# Altium integrated library Analog Devices Switches and Multiplexers Analog Switches.IntLib: 575 symbols (part 21 of 23)
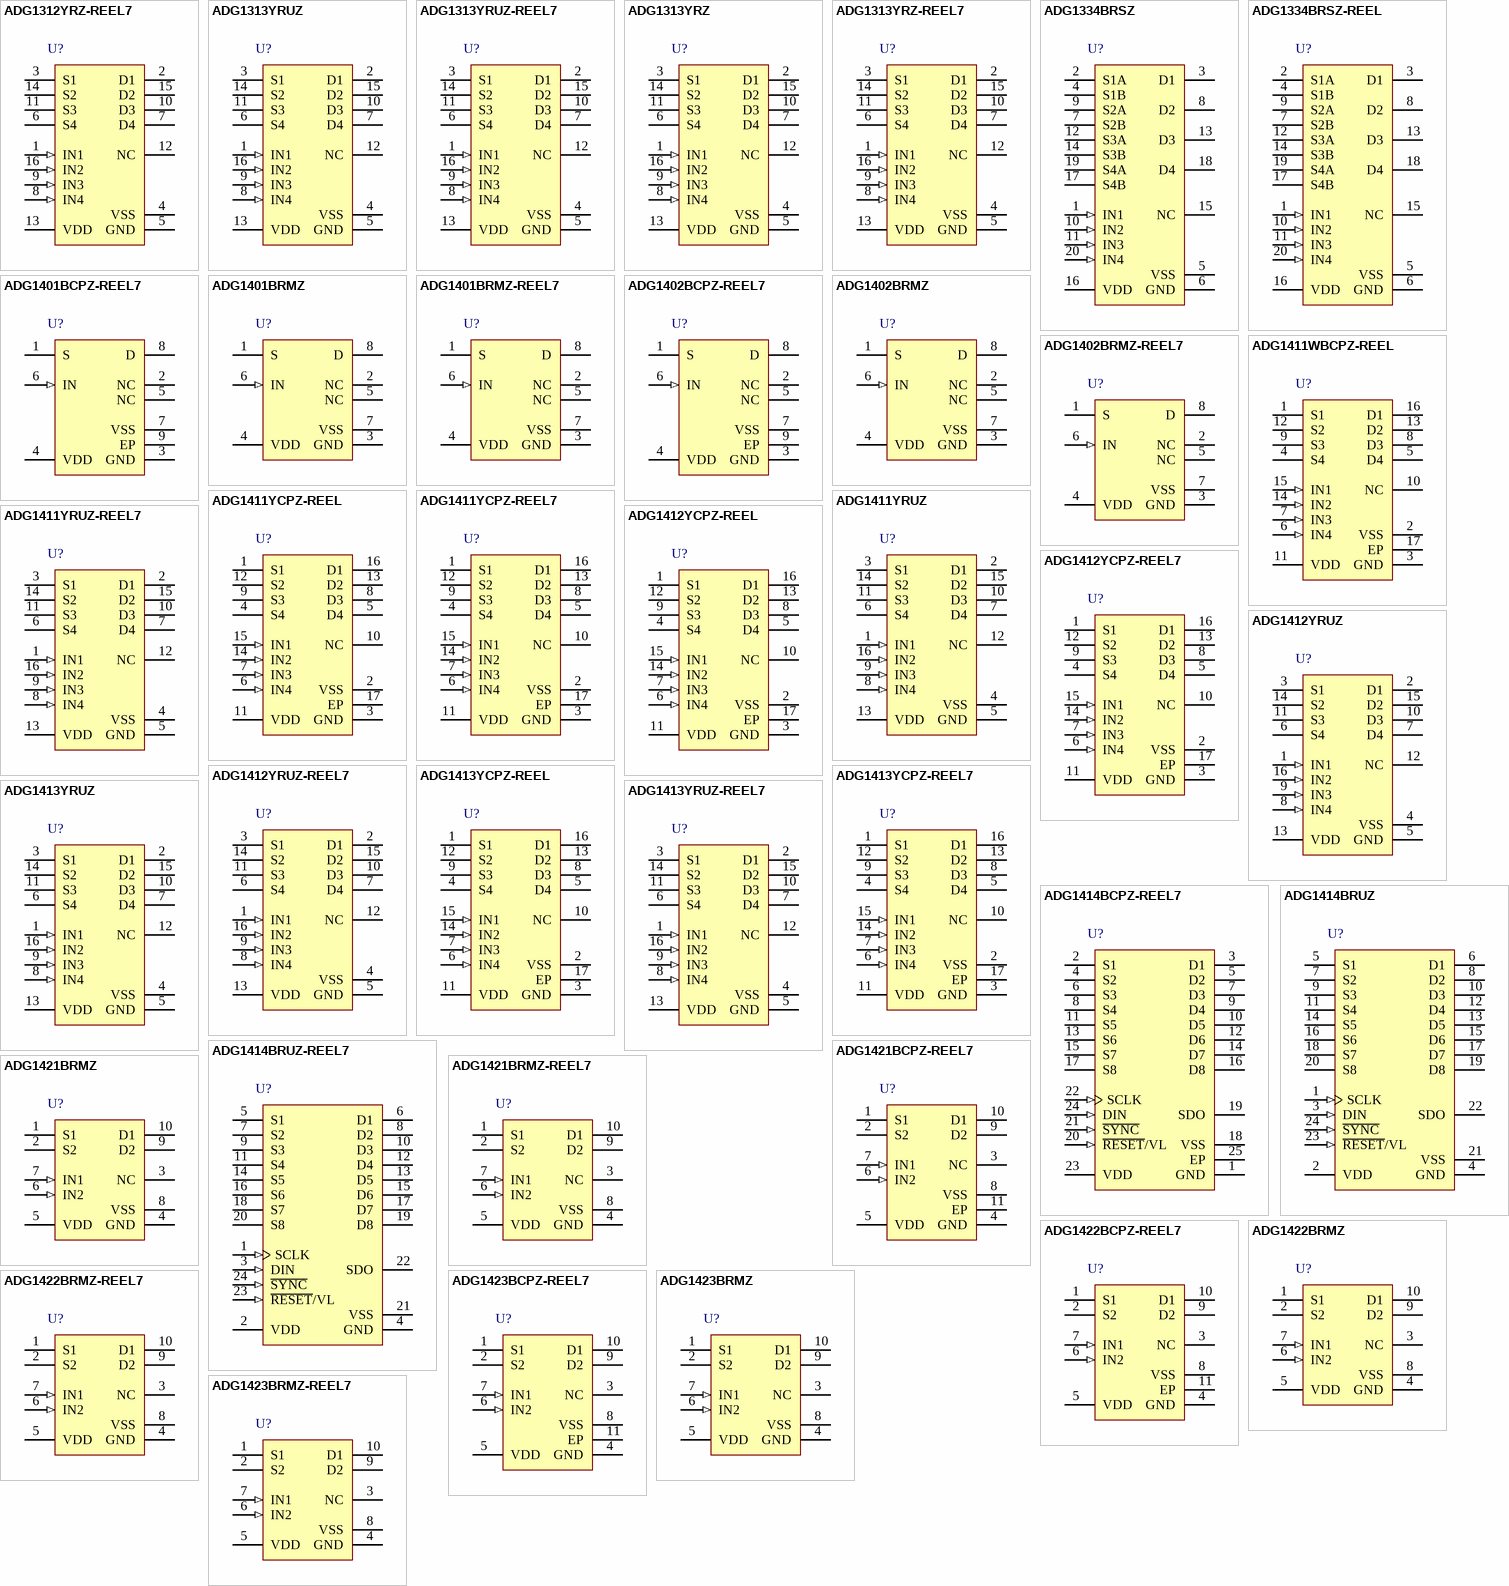
[diagram p35: symbols ADG1312YRZ-REEL7 to ADG1423BRMZ-REEL7]

## ADG1413YRUZ
designator U?
1.5 Ohm on Resistance, +/-15 V / +12 V / +/-5 V, iCMOS, Quad SPST Switch, -40 to 125 degC, 16-pin SOP (RU-16), Tube; Manufacturer: Analog Devices; PartNumber: ADG1413YRUZ; Id, Is (ON): 150pA, 150pA, 50pA; Is OFF: 30pA, 20pA, 30pA; Power Dissipation: 4.97mW; Ron (ohms): 1.5; DatasheetVersion: Rev. B; PackageVersion: Nov-02; PackageReference: RU-16; PackageDescription: 16-Pin Thin Shrink Small Outline Package, Body 5 x 4.4 mm, Pitch 0.65 mm; Supplier 1: Digi-Key; Supplier Part Number 1: ADG1413YRUZ-ND; Supplier 2: Newark; Supplier Part Number 2: 11N8728; Supplier 3: Mouser; Supplier Part Number 3: 584-ADG1413YRUZ; Configuration: SPST; Packing: Tube; Mounting Technology: Surface Mount; Code_JEDEC: MO-153AB; ComponentLink1Description: Manufacturer URL; ComponentLink1URL: http://www.analog.com/en/index.html; ComponentLink2Description: Datasheet; ComponentLink2URL: http://www.analog.com/static/imported-files/data_sheets/ADG1411_1412_1413.pdf; ComponentLink3Description: Package Specification; ComponentLink3URL: http:/www.analog.com/static/imported-files/packages/36244347913743854010197452789RU16.pdf
footprint ADI-RU-16_N (SOP, 16-Leads, Body 5x4.4mm, Pitch 0.65mm, IPC Medium Density)
footprint ADI-RU-16_L (SOP, 16-Leads, Body 5x4.4mm, Pitch 0.65mm, IPC High Density)
footprint ADI-RU-16_M (SOP, 16-Leads, Body 5x4.4mm, Pitch 0.65mm, IPC Low Density)
pins: 1 IN1 (in) "Logic Control Input.", 2 D1 "Drain Terminal. This pin can be an input or output.", 3 S1 "Source Terminal. This pin can be an input or output.", 4 VSS (power) "Most Negative Power Supply Potential.", 5 GND (power) "Ground (0 V) Reference.", 6 S4 "Source Terminal. This pin can be an input or output.", 7 D4 "Drain Terminal. This pin can be an input or output.", 8 IN4 (in) "Logic Control Input.", 9 IN3 (in) "Logic Control Input.", 10 D3 "Drain Terminal. This pin can be an input or output.", 11 S3 "Source Terminal. This pin can be an input or output.", 12 NC "No Connection.", 13 VDD (power) "Most Positive Power Supply Potential.", 14 S2 "Source Terminal. This pin can be an input or output.", 15 D2 "Drain Terminal. This pin can be an input or output.", 16 IN2 (in) "Logic Control Input."

## ADG1413YRUZ-REEL7
designator U?
1.5 Ohm on Resistance, +/-15 V / +12 V / +/-5 V, iCMOS, Quad SPST Switch, 16-pin SOP (RU-16), Reel; Manufacturer: Analog Devices; PartNumber: ADG1413YRUZ-REEL7; Id, Is (ON): 150pA, 150pA, 50pA; Is OFF: 30pA, 20pA, 30pA; Power Dissipation: 4.97mW; Ron (ohms): 1.5; DatasheetVersion: Rev. B; PackageVersion: Nov-02; PackageReference: RU-16; PackageDescription: 16-Pin Thin Shrink Small Outline Package, Body 5 x 4.4 mm, Pitch 0.65 mm; Supplier 1: Digi-Key; Supplier Part Number 1: ADG1413YRUZ-REEL7-ND; Supplier 2: Mouser; Supplier Part Number 2: 584-ADG1413YRUZ-R7; Configuration: SPST; Packing: Reel; Mounting Technology: Surface Mount; Code_JEDEC: MO-153AB; ComponentLink1Description: Manufacturer URL; ComponentLink1URL: http://www.analog.com/en/index.html; ComponentLink2Description: Datasheet; ComponentLink2URL: http://www.analog.com/static/imported-files/data_sheets/ADG1411_1412_1413.pdf; ComponentLink3Description: Package Specification; ComponentLink3URL: http:/www.analog.com/static/imported-files/packages/36244347913743854010197452789RU16.pdf
footprint ADI-RU-16_N (SOP, 16-Leads, Body 5x4.4mm, Pitch 0.65mm, IPC Medium Density)
footprint ADI-RU-16_L (SOP, 16-Leads, Body 5x4.4mm, Pitch 0.65mm, IPC High Density)
footprint ADI-RU-16_M (SOP, 16-Leads, Body 5x4.4mm, Pitch 0.65mm, IPC Low Density)
pins: 1 IN1 (in) "Logic Control Input.", 2 D1 "Drain Terminal. This pin can be an input or output.", 3 S1 "Source Terminal. This pin can be an input or output.", 4 VSS (power) "Most Negative Power Supply Potential.", 5 GND (power) "Ground (0 V) Reference.", 6 S4 "Source Terminal. This pin can be an input or output.", 7 D4 "Drain Terminal. This pin can be an input or output.", 8 IN4 (in) "Logic Control Input.", 9 IN3 (in) "Logic Control Input.", 10 D3 "Drain Terminal. This pin can be an input or output.", 11 S3 "Source Terminal. This pin can be an input or output.", 12 NC "No Connection.", 13 VDD (power) "Most Positive Power Supply Potential.", 14 S2 "Source Terminal. This pin can be an input or output.", 15 D2 "Drain Terminal. This pin can be an input or output.", 16 IN2 (in) "Logic Control Input."

## ADG1414BCPZ-REEL7
designator U?
9.5 Ohm RON +/-15 V / +12 V / +/-5 V iCMOS Serially-Controlled Octal SPST Switch, -40 to 125 degC, 24-pin QFN (CP-24-3), Reel; Manufacturer: Analog Devices; PartNumber: ADG1414BCPZ-REEL7; Id, Is (ON): 100pA, 50pA, 50pA; Is OFF: 50pA, 20pA, 20pA; Power Dissipation: 2.8mW; Ron (ohms): 9.5; DatasheetVersion: Rev. 0; PackageReference: CP-24-3; PackageDescription: 24-Pin Lead Frame Chip Scale Package, Body 4 x 4 mm, Pitch 0.5 mm; Supplier 1: Digi-Key; Supplier Part Number 1: ADG1414BCPZ-REEL7TR-ND; Supplier 2: Digi-Key; Supplier Part Number 2: ADG1414BCPZ-REEL7CT-ND; Supplier 3: Digi-Key; Supplier Part Number 3: ADG1414BCPZ-REEL7DKR-ND; Supplier 4: Newark; Supplier Part Number 4: 67R2179; Supplier 5: Mouser; Supplier Part Number 5: 584-ADG1414BCPZ-R7; Configuration: SPST; Packing: Reel; Mounting Technology: Surface Mount; Code_JEDEC: MO-220-VGGD-8; ComponentLink1Description: Manufacturer URL; ComponentLink1URL: http://www.analog.com/en/index.html; ComponentLink2Description: Datasheet; ComponentLink2URL: http://www.analog.com/static/imported-files/data_sheets/ADG1414.pdf; ComponentLink3Description: Package Specification; ComponentLink3URL: http://www.analog.com/static/imported-files/packages/56702234806764CP_24_3.pdf
footprint ADI-CP-24-3_N (QFN, 24-Leads, Body 4x4mm, Pitch 0.5mm,Thermal Pad 2.5x2.5mm, IPC Medium Density)
footprint ADI-CP-24-3_L (QFN, 24-Leads, Body 4x4mm, Pitch 0.5mm, Thermal Pad 2.5x2.5mm, IPC High Density)
footprint ADI-CP-24-3_M (QFN, 24-Leads, Body 4x4mm, Pitch 0.5mm, Thermal Pad 2.5x2.5mm, IPC Low Density)
pins: 1 GND (power) "Ground (0 V) Reference.", 2 S1 "Source Terminal 1. This pin can be an input or an output.", 3 D1 "Drain Terminal 1. This pin can be an input or an output.", 4 S2 "Source Terminal 1. This pin can be an input or an output.", 5 D2 "Drain Terminal 1. This pin can be an input or an output.", 6 S3 "Source Terminal 1. This pin can be an input or an output.", 7 D3 "Drain Terminal 1. This pin can be an input or an output.", 8 S4 "Source Terminal 1. This pin can be an input or an output.", 9 D4 "Drain Terminal 1. This pin can be an input or an output.", 10 D5 "Drain Terminal 1. This pin can be an input or an output.", 11 S5 "Source Terminal 1. This pin can be an input or an output.", 12 D6 "Drain Terminal 1. This pin can be an input or an output.", 13 S6 "Source Terminal 1. This pin can be an input or an output.", 14 D7 "Drain Terminal 1. This pin can be an input or an output.", 15 S7 "Source Terminal 1. This pin can be an input or an output.", 16 D8 "Drain Terminal 1. This pin can be an input or an output.", 17 S8 "Source Terminal 1. This pin can be an input or an output.", 18 VSS (power) "Most Negative Power Supply Potential. In single-supply applications, it can be connected to ground.", 19 SDO (oc) "Serial Data Output. This pin can be used for daisy-chaining a number of these devices together or for reading back the data in the shift register for diagnostic purposes. The serial data is transferred on the rising edge of (See Datasheet)", 20 ~{RESET}/VL (in) "RESET/Logic Power Supply Input (VL). When this pin is low (<0.8 V), this pin acts as RESET, all switches are open, and appropriate registers are cleared to 0. Otherwise, it is the logic power supply input that operates from (See Datasheet)", 21 ~{SYNC} (in) "Active Low Control Input. This is the frame synchronization signal for the input data. When SYNC goes low, it powers on the SCLK and DIN buffers and enables the input shift register. Data is transferred in on the falling (See Datasheet)", 22 SCLK (in) "Serial Clock Input. Data is clocked into the input shift register on the falling edge of the serial clock input. Data can be transferred at rates of up to 50 MHz.", 23 VDD (power) "Most Positive Power Supply Potential.", 24 DIN (in) "Serial Data Input. This device has an 8-bit shift register. Data is clocked into the register on the falling edge of the serial clock input.", 25 EP (power) "Exposed Pad. Exposed pad tied to the substrate, VSS."

## ADG1414BRUZ
designator U?
9.5 Ohm RON +/-15 V / +12 V / +/-5 V iCMOS Serially-Controlled Octal SPST Switch, -40 to 125 degC, 24-pin SOP (RU-24), Tube; Manufacturer: Analog Devices; PartNumber: ADG1414BRUZ; Id, Is (ON): 100pA, 50pA, 50pA; Is OFF: 50pA, 20pA, 20pA; Power Dissipation: 2.8mW; Ron (ohms): 9.5; DatasheetVersion: Rev. 0; PackageVersion: Nov-02; PackageReference: RU-24; PackageDescription: 24-Pin Thin Shrink Small Outline Package, Body 7.8 x 4.4 mm, Pitch 0.65 mm; Supplier 1: Digi-Key; Supplier Part Number 1: ADG1414BRUZ-ND; Supplier 2: Farnell; Supplier Part Number 2: 2094201; Supplier 3: Newark; Supplier Part Number 3: 52R8031; Supplier 4: Mouser; Supplier Part Number 4: 584-ADG1414BRUZ; Configuration: SPST; Packing: Tube; Mounting Technology: Surface Mount; Code_JEDEC: MO-153AD; ComponentLink1Description: Manufacturer URL; ComponentLink1URL: http://www.analog.com/en/index.html; ComponentLink2Description: Datasheet; ComponentLink2URL: http://www.analog.com/static/imported-files/data_sheets/ADG1414.pdf; ComponentLink3Description: Package Specification; ComponentLink3URL: http://www.analog.com/static/imported-files/packages/380523655245964505593671154107510036154RU24.pdf
footprint ADI-RU-24_N (SOP, 24-Leads, Body 7.8x4.4mm, Pitch 0.65mm, IPC Medium Density)
footprint ADI-RU-24_L (SOP, 24-Leads, Body 7.8x4.4mm, Pitch 0.65mm, IPC High Density)
footprint ADI-RU-24_M (SOP, 24-Leads, Body 7.8x4.4mm, Pitch 0.65mm, IPC Low Density)
pins: 1 SCLK (in) "Serial Clock Input. Data is clocked into the input shift register on the falling edge of the serial clock input. Data can be transferred at rates of up to 50 MHz.", 2 VDD (power) "Most Positive Power Supply Potential.", 3 DIN (in) "Serial Data Input. This device has an 8-bit shift register. Data is clocked into the register on the falling edge of the serial clock input.", 4 GND (power) "Ground (0 V) Reference.", 5 S1 "Source Terminal 1. This pin can be an input or an output.", 6 D1 "Drain Terminal 1. This pin can be an input or an output.", 7 S2 "Source Terminal 2. This pin can be an input or an output.", 8 D2 "Drain Terminal 2. This pin can be an input or an output.", 9 S3 "Source Terminal 3. This pin can be an input or an output.", 10 D3 "Drain Terminal 3. This pin can be an input or an output.", 11 S4 "Source Terminal 4. This pin can be an input or an output.", 12 D4 "Drain Terminal 4. This pin can be an input or an output.", 13 D5 "Drain Terminal 5. This pin can be an input or an output.", 14 S5 "Source Terminal 5. This pin can be an input or an output.", 15 D6 "Drain Terminal 6. This pin can be an input or an output.", 16 S6 "Source Terminal 6. This pin can be an input or an output.", 17 D7 "Drain Terminal 7. This pin can be an input or an output.", 18 S7 "Source Terminal 7. This pin can be an input or an output.", 19 D8 "Drain Terminal 8. This pin can be an input or an output.", 20 S8 "Source Terminal 8. This pin can be an input or an output.", 21 VSS (power) "Most Negative Power Supply Potential. In single-supply applications, it can be connected to ground.", 22 SDO (oc) "Serial Data Output. This pin can be used for daisy-chaining a number of these devices together or for reading back the data in the shift register for diagnostic purposes. The serial data is transferred on the rising edge of (See Datasheet)", 23 ~{RESET}/VL (in) "R\E\S\E\T\/Logic Power Supply Input (VL). When this pin is low (<0.8 V), this pin acts as R\E\S\E\T\, all switches are open, and appropriate registers are cleared to 0. Otherwise, it is the logic power supply input that (See Datasheet)", 24 ~{SYNC} (in) "Active Low Control Input. This is the frame synchronization signal for the input data. When S\Y\N\C\ goes low, it powers on the SCLK and DIN buffers and enables the input shift register. Data is transferred in on the falling (See Datasheet)"

## ADG1414BRUZ-REEL7
designator U?
9.5 Ohm RON +/-15 V / +12 V / +/-5 V iCMOS Serially-Controlled Octal SPST Switch, -40 to 125 degC, 24-pin SOP (RU-24), Reel; Manufacturer: Analog Devices; PartNumber: ADG1414BRUZ-REEL7; Id, Is (ON): 100pA, 50pA, 50pA; Is OFF: 50pA, 20pA, 20pA; Power Dissipation: 2.8mW; Ron (ohms): 9.5; DatasheetVersion: Rev. 0; PackageVersion: Nov-02; PackageReference: RU-24; PackageDescription: 24-Pin Thin Shrink Small Outline Package, Body 7.8 x 4.4 mm, Pitch 0.65 mm; Supplier 1: Digi-Key; Supplier Part Number 1: ADG1414BRUZ-REEL7TR-ND; Supplier 2: Digi-Key; Supplier Part Number 2: ADG1414BRUZ-REEL7CT-ND; Supplier 3: Digi-Key; Supplier Part Number 3: ADG1414BRUZ-REEL7DKR-ND; Supplier 4: Newark; Supplier Part Number 4: 52R8032; Supplier 5: Mouser; Supplier Part Number 5: 584-ADG1414BRUZ-R7; Configuration: SPST; Packing: Reel; Mounting Technology: Surface Mount; Code_JEDEC: MO-153AD; ComponentLink1Description: Manufacturer URL; ComponentLink1URL: http://www.analog.com/en/index.html; ComponentLink2Description: Datasheet; ComponentLink2URL: http://www.analog.com/static/imported-files/data_sheets/ADG1414.pdf; ComponentLink3Description: Package Specification; ComponentLink3URL: http://www.analog.com/static/imported-files/packages/380523655245964505593671154107510036154RU24.pdf
footprint ADI-RU-24_N (SOP, 24-Leads, Body 7.8x4.4mm, Pitch 0.65mm, IPC Medium Density)
footprint ADI-RU-24_L (SOP, 24-Leads, Body 7.8x4.4mm, Pitch 0.65mm, IPC High Density)
footprint ADI-RU-24_M (SOP, 24-Leads, Body 7.8x4.4mm, Pitch 0.65mm, IPC Low Density)
pins: 1 SCLK (in) "Serial Clock Input. Data is clocked into the input shift register on the falling edge of the serial clock input. Data can be transferred at rates of up to 50 MHz.", 2 VDD (power) "Most Positive Power Supply Potential.", 3 DIN (in) "Serial Data Input. This device has an 8-bit shift register. Data is clocked into the register on the falling edge of the serial clock input.", 4 GND (power) "Ground (0 V) Reference.", 5 S1 "Source Terminal 1. This pin can be an input or an output.", 6 D1 "Drain Terminal 1. This pin can be an input or an output.", 7 S2 "Source Terminal 2. This pin can be an input or an output.", 8 D2 "Drain Terminal 2. This pin can be an input or an output.", 9 S3 "Source Terminal 3. This pin can be an input or an output.", 10 D3 "Drain Terminal 3. This pin can be an input or an output.", 11 S4 "Source Terminal 4. This pin can be an input or an output.", 12 D4 "Drain Terminal 4. This pin can be an input or an output.", 13 D5 "Drain Terminal 5. This pin can be an input or an output.", 14 S5 "Source Terminal 5. This pin can be an input or an output.", 15 D6 "Drain Terminal 6. This pin can be an input or an output.", 16 S6 "Source Terminal 6. This pin can be an input or an output.", 17 D7 "Drain Terminal 7. This pin can be an input or an output.", 18 S7 "Source Terminal 7. This pin can be an input or an output.", 19 D8 "Drain Terminal 8. This pin can be an input or an output.", 20 S8 "Source Terminal 8. This pin can be an input or an output.", 21 VSS (power) "Most Negative Power Supply Potential. In single-supply applications, it can be connected to ground.", 22 SDO (oc) "Serial Data Output. This pin can be used for daisy-chaining a number of these devices together or for reading back the data in the shift register for diagnostic purposes. The serial data is transferred on the rising edge of (See Datasheet)", 23 ~{RESET}/VL (in) "R\E\S\E\T\/Logic Power Supply Input (VL). When this pin is low (<0.8 V), this pin acts as R\E\S\E\T\, all switches are open, and appropriate registers are cleared to 0. Otherwise, it is the logic power supply input that (See Datasheet)", 24 ~{SYNC} (in) "Active Low Control Input. This is the frame synchronization signal for the input data. When S\Y\N\C\ goes low, it powers on the SCLK and DIN buffers and enables the input shift register. Data is transferred in on the falling (See Datasheet)"

## ADG1421BCPZ-REEL7
designator U?
2.1 Ohm On Resistance, +/-15 V / +12 V / +/-5 V iCMOS Dual SPST Switch, -40 to 125 degC, 10-pin SON (CP-10-9), Reel; Manufacturer: Analog Devices; PartNumber: ADG1421BCPZ-REEL7; Id, Is (ON): 200pA, 100pA, 100pA; Is OFF: 100pA, 50pA, 50pA; Power Dissipation: 1.8mW; Ron (ohms): 2.1; DatasheetVersion: Rev. 0; PackageVersion: 02-27-2012-B; PackageReference: CP-10-9; PackageDescription: 10-Pin Lead Frame Chip Scale Package, Body 3 X 3 mm, Pitch 0.5 mm; Supplier 1: Digi-Key; Supplier Part Number 1: ADG1421BCPZ-REEL7TR-ND; Supplier 2: Digi-Key; Supplier Part Number 2: ADG1421BCPZ-REEL7CT-ND; Supplier 3: Digi-Key; Supplier Part Number 3: ADG1421BCPZ-REEL7DKR-ND; Supplier 4: Mouser; Supplier Part Number 4: 584-ADG1421BCPZ-R7; Configuration: SPST; Packing: Reel; Mounting Technology: Surface Mount; ComponentLink1Description: Manufacturer URL; ComponentLink1URL: http://www.analog.com/en/index.html; ComponentLink2Description: Datasheet; ComponentLink2URL: http://www.analog.com/static/imported-files/data_sheets/ADG1421_1422_1423.pdf; ComponentLink3Description: Package Specification; ComponentLink3URL: http://www.analog.com/static/imported-files/packages/CP_10_9.pdf
footprint ADI-CP-10-9_V (SON, 10-Leads, Body 3x3mm, Pitch 0.5mm, Thermal Pad 2.48x1.74mm)
pins: 1 S1 "Source Terminal. This pin can be an input or output.", 2 S2 "Source Terminal. This pin can be an input or output.", 3 NC "No Connect.", 4 GND (power) "Ground (0 V) Reference.", 5 VDD (power) "Most Positive Power Supply Potential.", 6 IN2 (in) "Logic Control Input.", 7 IN1 (in) "Logic Control Input.", 8 VSS (power) "Most Negative Power Supply Potential.", 9 D2 "Drain Terminal. This pin can be an input or output.", 10 D1 "Drain Terminal. This pin can be an input or output.", 11 EP (power) "Exposed pad tied to substrate, VSS."

## ADG1421BRMZ
designator U?
2.1 Ohm On Resistance, +/-15 V / +12 V / +/-5 V iCMOS Dual SPST Switch, -40 to 125 degC, 10-pin SOP (RM-10), Tube; Manufacturer: Analog Devices; PartNumber: ADG1421BRMZ; Id, Is (ON): 200pA, 100pA, 100pA; Is OFF: 100pA, 50pA, 50pA; Power Dissipation: 1.8mW; Ron (ohms): 2.1; DatasheetVersion: Rev. 0; PackageVersion: Aug-05; PackageReference: RM-10; PackageDescription: 10-Pin Mini Small Outline Package, Body 3 x 3 mm, Pitch 0.5 mm; Supplier 1: Digi-Key; Supplier Part Number 1: ADG1421BRMZ-ND; Supplier 2: Farnell; Supplier Part Number 2: 2102532; Supplier 3: Farnell; Supplier Part Number 3: 1786223; Supplier 4: Newark; Supplier Part Number 4: 52R8036; Supplier 5: Mouser; Supplier Part Number 5: 584-ADG1421BRMZ; Configuration: SPST; Packing: Tube; Mounting Technology: Surface Mount; Code_JEDEC: MO-187-BA; ComponentLink1Description: Manufacturer URL; ComponentLink1URL: http://www.analog.com/en/index.html; ComponentLink2Description: Datasheet; ComponentLink2URL: http://www.analog.com/static/imported-files/data_sheets/ADG1421_1422_1423.pdf; ComponentLink3Description: Package Specification; ComponentLink3URL: http://www.analog.com/static/imported-files/packages/PKG_PDF/MSOP%28RM%29/RM_10.pdf
footprint ADI-RM-10_N (SOP, 10-Leads, Body 3x3mm, Pitch 0.5mm, IPC Medium Density)
footprint ADI-RM-10_L (SOP, 10-Leads, Body 3x3mm, Pitch 0.5mm, IPC High Density)
footprint ADI-RM-10_M (SOP, 10-Leads, Body 3x3mm, Pitch 0.5mm, IPC Low Density)
pins: 1 S1 "Source Terminal. This pin can be an input or output.", 2 S2 "Source Terminal. This pin can be an input or output.", 3 NC "No Connect.", 4 GND (power) "Ground (0 V) Reference.", 5 VDD (power) "Most Positive Power Supply Potential.", 6 IN2 (in) "Logic Control Input.", 7 IN1 (in) "Logic Control Input.", 8 VSS (power) "Most Negative Power Supply Potential.", 9 D2 "Drain Terminal. This pin can be an input or output.", 10 D1 "Drain Terminal. This pin can be an input or output."

## ADG1421BRMZ-REEL7
designator U?
2.1 Ohm On Resistance, +/-15 V / +12 V / +/-5 V iCMOS Dual SPST Switch, -40 to 125 degC, 10-pin SOP (RM-10), Reel; Manufacturer: Analog Devices; PartNumber: ADG1421BRMZ-REEL7; Id, Is (ON): 200pA, 100pA, 100pA; Is OFF: 100pA, 50pA, 50pA; Power Dissipation: 1.8mW; Ron (ohms): 2.1; DatasheetVersion: Rev. 0; PackageVersion: Aug-05; PackageReference: RM-10; PackageDescription: 10-Pin Mini Small Outline Package, Body 3 x 3 mm, Pitch 0.5 mm; Supplier 1: Digi-Key; Supplier Part Number 1: ADG1421BRMZ-REEL7TR-ND; Supplier 2: Digi-Key; Supplier Part Number 2: ADG1421BRMZ-REEL7CT-ND; Supplier 3: Digi-Key; Supplier Part Number 3: ADG1421BRMZ-REEL7DKR-ND; Supplier 4: Mouser; Supplier Part Number 4: 584-ADG1421BRMZ-R7; Configuration: SPST; Packing: Reel; Mounting Technology: Surface Mount; Code_JEDEC: MO-187-BA; ComponentLink1Description: Manufacturer URL; ComponentLink1URL: http://www.analog.com/en/index.html; ComponentLink2Description: Datasheet; ComponentLink2URL: http://www.analog.com/static/imported-files/data_sheets/ADG1421_1422_1423.pdf; ComponentLink3Description: Package Specification; ComponentLink3URL: http://www.analog.com/static/imported-files/packages/PKG_PDF/MSOP%28RM%29/RM_10.pdf
footprint ADI-RM-10_N (SOP, 10-Leads, Body 3x3mm, Pitch 0.5mm, IPC Medium Density)
footprint ADI-RM-10_L (SOP, 10-Leads, Body 3x3mm, Pitch 0.5mm, IPC High Density)
footprint ADI-RM-10_M (SOP, 10-Leads, Body 3x3mm, Pitch 0.5mm, IPC Low Density)
pins: 1 S1 "Source Terminal. This pin can be an input or output.", 2 S2 "Source Terminal. This pin can be an input or output.", 3 NC "No Connect.", 4 GND (power) "Ground (0 V) Reference.", 5 VDD (power) "Most Positive Power Supply Potential.", 6 IN2 (in) "Logic Control Input.", 7 IN1 (in) "Logic Control Input.", 8 VSS (power) "Most Negative Power Supply Potential.", 9 D2 "Drain Terminal. This pin can be an input or output.", 10 D1 "Drain Terminal. This pin can be an input or output."

## ADG1422BCPZ-REEL7
designator U?
2.1 Ohm on Resistance, +/-15 V / +12 V / +/-5 V iCMOS Dual SPST Switch, -40 to 125 degC, 10-pin SON (CP-10-9), Reel; Manufacturer: Analog Devices; PartNumber: ADG1422BCPZ-REEL7; Id, Is (ON): 200pA, 100pA, 100pA; Is OFF: 100pA, 50pA, 50pA; Power Dissipation: 1.8mW; Ron (ohms): 2.1; DatasheetVersion: Rev. 0; PackageVersion: 02-27-2012-B; PackageReference: CP-10-9; PackageDescription: 10-Pin Lead Frame Chip Scale Package, Body 3 X 3 mm, Pitch 0.5 mm; Supplier 1: Digi-Key; Supplier Part Number 1: ADG1422BCPZ-REEL7TR-ND; Supplier 2: Digi-Key; Supplier Part Number 2: ADG1422BCPZ-REEL7CT-ND; Supplier 3: Digi-Key; Supplier Part Number 3: ADG1422BCPZ-REEL7DKR-ND; Supplier 4: Mouser; Supplier Part Number 4: 584-ADG1422BCPZ-R7; Configuration: SPST; Packing: Reel; Mounting Technology: Surface Mount; ComponentLink1Description: Manufacturer URL; ComponentLink1URL: http://www.analog.com/en/index.html; ComponentLink2Description: Datasheet; ComponentLink2URL: http://www.analog.com/static/imported-files/data_sheets/ADG1421_1422_1423.pdf; ComponentLink3Description: Package Specification; ComponentLink3URL: http://www.analog.com/static/imported-files/packages/CP_10_9.pdf
footprint ADI-CP-10-9_V (SON, 10-Leads, Body 3x3mm, Pitch 0.5mm, Thermal Pad 2.48x1.74mm)
pins: 1 S1 "Source Terminal. This pin can be an input or output.", 2 S2 "Source Terminal. This pin can be an input or output.", 3 NC "No Connect.", 4 GND (power) "Ground (0 V) Reference.", 5 VDD (power) "Most Positive Power Supply Potential.", 6 IN2 (in) "Logic Control Input.", 7 IN1 (in) "Logic Control Input.", 8 VSS (power) "Most Negative Power Supply Potential.", 9 D2 "Drain Terminal. This pin can be an input or output.", 10 D1 "Drain Terminal. This pin can be an input or output.", 11 EP (power) "Exposed pad tied to substrate, VSS."

## ADG1422BRMZ
designator U?
2.1 Ohm on Resistance, +/-15 V / +12 V / +/-5 V iCMOS Dual SPST Switch, -40 to 125 degC, 10-pin SOP (RM-10), Tube; Manufacturer: Analog Devices; PartNumber: ADG1422BRMZ; Id, Is (ON): 200pA, 100pA, 100pA; Is OFF: 100pA, 50pA, 50pA; Power Dissipation: 1.8mW; Ron (ohms): 2.1; DatasheetVersion: Rev. 0; PackageVersion: Aug-05; PackageReference: RM-10; PackageDescription: 10-Pin Mini Small Outline Package, Body 3 x 3 mm, Pitch 0.5 mm; Supplier 1: Digi-Key; Supplier Part Number 1: ADG1422BRMZ-ND; Supplier 2: Newark; Supplier Part Number 2: 52R8038; Supplier 3: Mouser; Supplier Part Number 3: 584-ADG1422BRMZ; Configuration: SPST; Packing: Tube; Mounting Technology: Surface Mount; Code_JEDEC: MO-187-BA; ComponentLink1Description: Manufacturer URL; ComponentLink1URL: http://www.analog.com/en/index.html; ComponentLink2Description: Datasheet; ComponentLink2URL: http://www.analog.com/static/imported-files/data_sheets/ADG1421_1422_1423.pdf; ComponentLink3Description: Package Specification; ComponentLink3URL: http://www.analog.com/static/imported-files/packages/PKG_PDF/MSOP%28RM%29/RM_10.pdf
footprint ADI-RM-10_N (SOP, 10-Leads, Body 3x3mm, Pitch 0.5mm, IPC Medium Density)
footprint ADI-RM-10_L (SOP, 10-Leads, Body 3x3mm, Pitch 0.5mm, IPC High Density)
footprint ADI-RM-10_M (SOP, 10-Leads, Body 3x3mm, Pitch 0.5mm, IPC Low Density)
pins: 1 S1 "Source Terminal. This pin can be an input or output.", 2 S2 "Source Terminal. This pin can be an input or output.", 3 NC "No Connect.", 4 GND (power) "Ground (0 V) Reference.", 5 VDD (power) "Most Positive Power Supply Potential.", 6 IN2 (in) "Logic Control Input.", 7 IN1 (in) "Logic Control Input.", 8 VSS (power) "Most Negative Power Supply Potential.", 9 D2 "Drain Terminal. This pin can be an input or output.", 10 D1 "Drain Terminal. This pin can be an input or output."

## ADG1422BRMZ-REEL7
designator U?
2.1 Ohm on Resistance, +/-15 V / +12 V / +/-5 V iCMOS Dual SPST Switch, -40 to 125 degC, 10-pin SOP (RM-10), Reel; Manufacturer: Analog Devices; PartNumber: ADG1422BRMZ-REEL7; Id, Is (ON): 200pA, 100pA, 100pA; Is OFF: 100pA, 50pA, 50pA; Power Dissipation: 1.8mW; Ron (ohms): 2.1; DatasheetVersion: Rev. 0; PackageVersion: Aug-05; PackageReference: RM-10; PackageDescription: 10-Pin Mini Small Outline Package, Body 3 x 3 mm, Pitch 0.5 mm; Supplier 1: Digi-Key; Supplier Part Number 1: ADG1422BRMZ-REEL7-ND; Supplier 2: Mouser; Supplier Part Number 2: 584-ADG1422BRMZ-R7; Configuration: SPST; Packing: Reel; Mounting Technology: Surface Mount; Code_JEDEC: MO-187-BA; ComponentLink1Description: Manufacturer URL; ComponentLink1URL: http://www.analog.com/en/index.html; ComponentLink2Description: Datasheet; ComponentLink2URL: http://www.analog.com/static/imported-files/data_sheets/ADG1421_1422_1423.pdf; ComponentLink3Description: Package Specification; ComponentLink3URL: http://www.analog.com/static/imported-files/packages/PKG_PDF/MSOP%28RM%29/RM_10.pdf
footprint ADI-RM-10_N (SOP, 10-Leads, Body 3x3mm, Pitch 0.5mm, IPC Medium Density)
footprint ADI-RM-10_L (SOP, 10-Leads, Body 3x3mm, Pitch 0.5mm, IPC High Density)
footprint ADI-RM-10_M (SOP, 10-Leads, Body 3x3mm, Pitch 0.5mm, IPC Low Density)
pins: 1 S1 "Source Terminal. This pin can be an input or output.", 2 S2 "Source Terminal. This pin can be an input or output.", 3 NC "No Connect.", 4 GND (power) "Ground (0 V) Reference.", 5 VDD (power) "Most Positive Power Supply Potential.", 6 IN2 (in) "Logic Control Input.", 7 IN1 (in) "Logic Control Input.", 8 VSS (power) "Most Negative Power Supply Potential.", 9 D2 "Drain Terminal. This pin can be an input or output.", 10 D1 "Drain Terminal. This pin can be an input or output."

## ADG1423BCPZ-REEL7
designator U?
2.1 Ohm On Resistance, +/-15 V / +12 V / +/-5 V iCMOS Dual SPST Switch, -40 to 125 degC, 10-pin SON (CP-10-9), Reel; Manufacturer: Analog Devices; PartNumber: ADG1423BCPZ-REEL7; Id, Is (ON): 200pA, 100pA, 100pA; Is OFF: 100pA, 50pA, 50pA; Power Dissipation: 1.8mW; Ron (ohms): 2.1; DatasheetVersion: Rev. 0; PackageVersion: 02-27-2012-B; PackageReference: CP-10-9; PackageDescription: 10-Pin Lead Frame Chip Scale Package, Body 3 X 3 mm, Pitch 0.5 mm; Supplier 1: Digi-Key; Supplier Part Number 1: ADG1423BCPZ-REEL7TR-ND; Supplier 2: Digi-Key; Supplier Part Number 2: ADG1423BCPZ-REEL7CT-ND; Supplier 3: Digi-Key; Supplier Part Number 3: ADG1423BCPZ-REEL7DKR-ND; Supplier 4: Newark; Supplier Part Number 4: 63R9734; Supplier 5: Mouser; Supplier Part Number 5: 584-ADG1423BCPZ-R7; Configuration: SPST; Packing: Reel; Mounting Technology: Surface Mount; ComponentLink1Description: Manufacturer URL; ComponentLink1URL: http://www.analog.com/en/index.html; ComponentLink2Description: Datasheet; ComponentLink2URL: http://www.analog.com/static/imported-files/data_sheets/ADG1421_1422_1423.pdf; ComponentLink3Description: Package Specification; ComponentLink3URL: http://www.analog.com/static/imported-files/packages/CP_10_9.pdf
footprint ADI-CP-10-9_V (SON, 10-Leads, Body 3x3mm, Pitch 0.5mm, Thermal Pad 2.48x1.74mm)
pins: 1 S1 "Source Terminal. This pin can be an input or output.", 2 S2 "Source Terminal. This pin can be an input or output.", 3 NC "No Connect.", 4 GND (power) "Ground (0 V) Reference.", 5 VDD (power) "Most Positive Power Supply Potential.", 6 IN2 (in) "Logic Control Input.", 7 IN1 (in) "Logic Control Input.", 8 VSS (power) "Most Negative Power Supply Potential.", 9 D2 "Drain Terminal. This pin can be an input or output.", 10 D1 "Drain Terminal. This pin can be an input or output.", 11 EP (power) "Exposed pad tied to substrate, VSS."

## ADG1423BRMZ
designator U?
2.1 Ohm On Resistance, +/-15 V / +12 V / +/-5 V iCMOS Dual SPST Switch, -40 to 125 degC, 10-pin SOP (RM-10), Tube; Manufacturer: Analog Devices; PartNumber: ADG1423BRMZ; Id, Is (ON): 200pA, 100pA, 100pA; Is OFF: 100pA, 50pA, 50pA; Power Dissipation: 1.8mW; Ron (ohms): 2.1; DatasheetVersion: Rev. 0; PackageVersion: Aug-05; PackageReference: RM-10; PackageDescription: 10-Pin Mini Small Outline Package, Body 3 x 3 mm, Pitch 0.5 mm; Supplier 1: Digi-Key; Supplier Part Number 1: ADG1423BRMZ-ND; Supplier 2: Farnell; Supplier Part Number 2: 1800129; Supplier 3: Newark; Supplier Part Number 3: 52R8040; Supplier 4: Mouser; Supplier Part Number 4: 584-ADG1423BRMZ; Configuration: SPST; Packing: Tube; Mounting Technology: Surface Mount; Code_JEDEC: MO-187-BA; ComponentLink1Description: Manufacturer URL; ComponentLink1URL: http://www.analog.com/en/index.html; ComponentLink2Description: Datasheet; ComponentLink2URL: http://www.analog.com/static/imported-files/data_sheets/ADG1421_1422_1423.pdf; ComponentLink3Description: Package Specification; ComponentLink3URL: http://www.analog.com/static/imported-files/packages/PKG_PDF/MSOP%28RM%29/RM_10.pdf
footprint ADI-RM-10_N (SOP, 10-Leads, Body 3x3mm, Pitch 0.5mm, IPC Medium Density)
footprint ADI-RM-10_L (SOP, 10-Leads, Body 3x3mm, Pitch 0.5mm, IPC High Density)
footprint ADI-RM-10_M (SOP, 10-Leads, Body 3x3mm, Pitch 0.5mm, IPC Low Density)
pins: 1 S1 "Source Terminal. This pin can be an input or output.", 2 S2 "Source Terminal. This pin can be an input or output.", 3 NC "No Connect.", 4 GND (power) "Ground (0 V) Reference.", 5 VDD (power) "Most Positive Power Supply Potential.", 6 IN2 (in) "Logic Control Input.", 7 IN1 (in) "Logic Control Input.", 8 VSS (power) "Most Negative Power Supply Potential.", 9 D2 "Drain Terminal. This pin can be an input or output.", 10 D1 "Drain Terminal. This pin can be an input or output."

## ADG1423BRMZ-REEL7
designator U?
2.1 Ohm On Resistance, +/-15 V / +12 V / +/-5 V iCMOS Dual SPST Switch, -40 to 125 degC, 10-pin SOP (RM-10), Reel; Manufacturer: Analog Devices; PartNumber: ADG1423BRMZ-REEL7; Id, Is (ON): 200pA, 100pA, 100pA; Is OFF: 100pA, 50pA, 50pA; Power Dissipation: 1.8mW; Ron (ohms): 2.1; DatasheetVersion: Rev. 0; PackageVersion: Aug-05; PackageReference: RM-10; PackageDescription: 10-Pin Mini Small Outline Package, Body 3 x 3 mm, Pitch 0.5 mm; Supplier 1: Digi-Key; Supplier Part Number 1: ADG1423BRMZ-REEL7-ND; Supplier 2: Newark; Supplier Part Number 2: 52R8041; Supplier 3: Mouser; Supplier Part Number 3: 584-ADG1423BRMZ-R7; Configuration: SPST; Packing: Reel; Mounting Technology: Surface Mount; Code_JEDEC: MO-187-BA; ComponentLink1Description: Manufacturer URL; ComponentLink1URL: http://www.analog.com/en/index.html; ComponentLink2Description: Datasheet; ComponentLink2URL: http://www.analog.com/static/imported-files/data_sheets/ADG1421_1422_1423.pdf; ComponentLink3Description: Package Specification; ComponentLink3URL: http://www.analog.com/static/imported-files/packages/PKG_PDF/MSOP%28RM%29/RM_10.pdf
footprint ADI-RM-10_N (SOP, 10-Leads, Body 3x3mm, Pitch 0.5mm, IPC Medium Density)
footprint ADI-RM-10_L (SOP, 10-Leads, Body 3x3mm, Pitch 0.5mm, IPC High Density)
footprint ADI-RM-10_M (SOP, 10-Leads, Body 3x3mm, Pitch 0.5mm, IPC Low Density)
pins: 1 S1 "Source Terminal. This pin can be an input or output.", 2 S2 "Source Terminal. This pin can be an input or output.", 3 NC "No Connect.", 4 GND (power) "Ground (0 V) Reference.", 5 VDD (power) "Most Positive Power Supply Potential.", 6 IN2 (in) "Logic Control Input.", 7 IN1 (in) "Logic Control Input.", 8 VSS (power) "Most Negative Power Supply Potential.", 9 D2 "Drain Terminal. This pin can be an input or output.", 10 D1 "Drain Terminal. This pin can be an input or output."

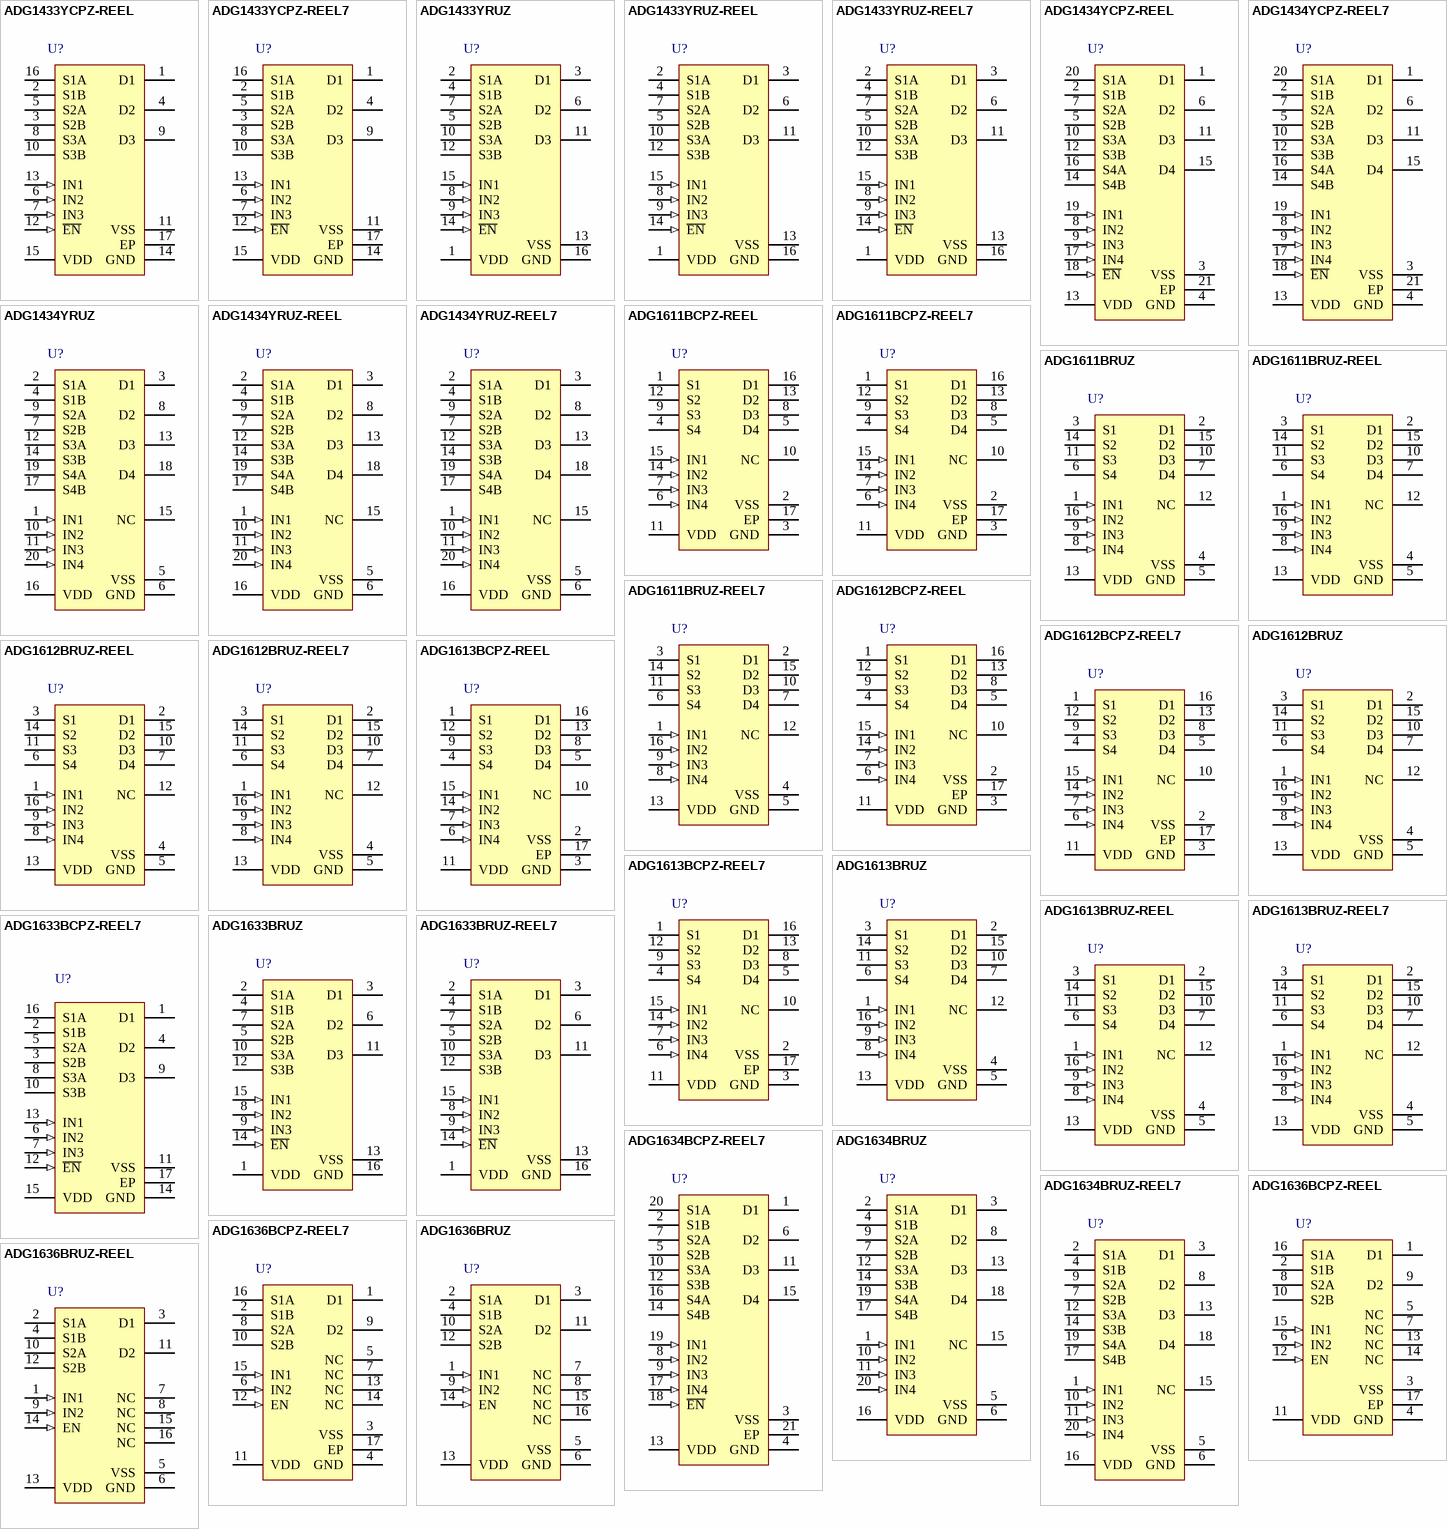
[diagram p14: symbols ADG1433YCPZ-REEL to ADG1636BRUZ-REEL]

## ADG1433YCPZ-REEL
designator U?
4 Ohm Ron, Triple SPDT +/-15 V / +12 V / +/-5 V iCMOS Switch, 16-pin QFN (CP-16-13), Reel; Manufacturer: Analog Devices; PartNumber: ADG1433YCPZ-REEL; Id, Is (ON): 50pA, 60pA, 40pA; Is OFF: 40pA, 40pA, 20pA; Power Dissipation: 6.6mW; Ron (ohms): 4; DatasheetVersion: Rev. C; PackageVersion: 031006-A, 06/2006; PackageReference: CP-16-13; PackageDescription: 16-Pin Lead Frame Chip Scale Package, Body 4 x 4 mm, Pitch 0.65 mm; Supplier 1: Digi-Key; Supplier Part Number 1: ADG1433YCPZ-REEL-ND; Supplier 2: Mouser; Supplier Part Number 2: 584-ADG1433YCPZ-R; Configuration: SPDT; Packing: Reel; Mounting Technology: Surface Mount; Code_JEDEC: MO-220-VGGC.; ComponentLink1Description: Manufacturer URL; ComponentLink1URL: http://www.analog.com/en/index.html; ComponentLink2Description: Datasheet; ComponentLink2URL: http://www.analog.com/static/imported-files/data_sheets/ADG1433_1434.pdf; ComponentLink3Description: Package Specification; ComponentLink3URL: http://www.analog.com/static/imported-files/packages/PKG_PDF/LFCSP(CP)/CP-16/CP_16_13.pdf
footprint ADI-CP-16-13_N (QFN, 16-Leads, Body 4x4mm, Pitch 0.65mm, Thermal Pad 2.5x2.5mm, IPC Medium Density)
footprint ADI-CP-16-13_L (QFN, 16-Leads, Body 4x4mm, Pitch 0.65mm, Thermal Pad 2.5x2.5mm, IPC High Density)
footprint ADI-CP-16-13_M (QFN, 16-Leads, Body 4x4mm, Pitch 0.65mm, Thermal Pad 2.5x2.5mm, IPC Low Density)
pins: 1 D1 "Drain Terminal 1. Can be an input or an output.", 2 S1B "Source Terminal 1B. Can be an input or an output.", 3 S2B "Source Terminal 2B. Can be an input or an output.", 4 D2 "Drain Terminal 2. Can be an input or an output.", 5 S2A "Source Terminal 2A. Can be an input or an output.", 6 IN2 (in) "Logic Control Input 2.", 7 IN3 (in) "Logic Control Input 3.", 8 S3A "Source Terminal 3A. Can be an input or an output.", 9 D3 "Drain Terminal 3. Can be an input or an output.", 10 S3B "Source Terminal 3B. Can be an input or an output.", 11 VSS (power) "Most Negative Power Supply Potential. In single-supply applications, it can be connected to ground.", 12 ~{EN} (in) "Active Low Digital Input. When high, the device is disabled and all switches are off. When low, INx logic inputs determine the on switches.", 13 IN1 (in) "Logic Control Input 1.", 14 GND (power) "Ground (0 V) Reference.", 15 VDD (power) "Most Positive Power Supply Potential.", 16 S1A "Source Terminal 1A. Can be an input or an output.", 17 EP (power) "Exposed pad is tied to substrate,vss."

## ADG1433YCPZ-REEL7
designator U?
4 Ohm Ron, Triple SPDT +/-15 V / +12 V / +/-5 V iCMOS Switch, 16-pin QFN (CP-16-13), Reel; Manufacturer: Analog Devices; PartNumber: ADG1433YCPZ-REEL7; Id, Is (ON): 50pA, 60pA, 40pA; Is OFF: 40pA, 40pA, 20pA; Power Dissipation: 6.6mW; Ron (ohms): 4; DatasheetVersion: Rev. C; PackageVersion: 031006-A, 06/2006; PackageReference: CP-16-13; PackageDescription: 16-Pin Lead Frame Chip Scale Package, Body 4 x 4 mm, Pitch 0.65 mm; Supplier 1: Digi-Key; Supplier Part Number 1: ADG1433YCPZ-REEL7TR-ND; Supplier 2: Digi-Key; Supplier Part Number 2: ADG1433YCPZ-REEL7CT-ND; Supplier 3: Digi-Key; Supplier Part Number 3: ADG1433YCPZ-REEL7DKR-ND; Supplier 4: Farnell; Supplier Part Number 4: 2312939; Supplier 5: Newark; Supplier Part Number 5: 28M3591; Supplier 6: Newark; Supplier Part Number 6: 67W3120; Supplier 7: Mouser; Supplier Part Number 7: 584-ADG1433YCPZ-R7; Configuration: SPDT; Packing: Reel; Mounting Technology: Surface Mount; Code_JEDEC: MO-220-VGGC.; ComponentLink1Description: Manufacturer URL; ComponentLink1URL: http://www.analog.com/en/index.html; ComponentLink2Description: Datasheet; ComponentLink2URL: http://www.analog.com/static/imported-files/data_sheets/ADG1433_1434.pdf; ComponentLink3Description: Package Specification; ComponentLink3URL: http://www.analog.com/static/imported-files/packages/PKG_PDF/LFCSP(CP)/CP-16/CP_16_13.pdf
footprint ADI-CP-16-13_N (QFN, 16-Leads, Body 4x4mm, Pitch 0.65mm, Thermal Pad 2.5x2.5mm, IPC Medium Density)
footprint ADI-CP-16-13_L (QFN, 16-Leads, Body 4x4mm, Pitch 0.65mm, Thermal Pad 2.5x2.5mm, IPC High Density)
footprint ADI-CP-16-13_M (QFN, 16-Leads, Body 4x4mm, Pitch 0.65mm, Thermal Pad 2.5x2.5mm, IPC Low Density)
pins: 1 D1 "Drain Terminal 1. Can be an input or an output.", 2 S1B "Source Terminal 1B. Can be an input or an output.", 3 S2B "Source Terminal 2B. Can be an input or an output.", 4 D2 "Drain Terminal 2. Can be an input or an output.", 5 S2A "Source Terminal 2A. Can be an input or an output.", 6 IN2 (in) "Logic Control Input 2.", 7 IN3 (in) "Logic Control Input 3.", 8 S3A "Source Terminal 3A. Can be an input or an output.", 9 D3 "Drain Terminal 3. Can be an input or an output.", 10 S3B "Source Terminal 3B. Can be an input or an output.", 11 VSS (power) "Most Negative Power Supply Potential. In single-supply applications, it can be connected to ground.", 12 ~{EN} (in) "Active Low Digital Input. When high, the device is disabled and all switches are off. When low, INx logic inputs determine the on switches.", 13 IN1 (in) "Logic Control Input 1.", 14 GND (power) "Ground (0 V) Reference.", 15 VDD (power) "Most Positive Power Supply Potential.", 16 S1A "Source Terminal 1A. Can be an input or an output.", 17 EP (power) "Exposed pad is tied to substrate,vss."

## ADG1433YRUZ
designator U?
4 Ohm Ron, Triple SPDT +/-15 V / +12 V / +/-5 V iCMOS Switch, 16-pin SOP (RU-16), Tube; Manufacturer: Analog Devices; PartNumber: ADG1433YRUZ; Id, Is (ON): 50pA, 60pA, 40pA; Is OFF: 40pA, 40pA, 20pA; Power Dissipation: 6.6mW; Ron (ohms): 4; DatasheetVersion: Rev. C; PackageVersion: Nov-02; PackageReference: RU-16; PackageDescription: 16-Pin Thin Shrink Small Outline Package, Body 5 x 4.4 mm, Pitch 0.65 mm; Supplier 1: Digi-Key; Supplier Part Number 1: ADG1433YRUZ-ND; Supplier 2: Farnell; Supplier Part Number 2: 1438879; Supplier 3: Newark; Supplier Part Number 3: 28M3592; Supplier 4: Mouser; Supplier Part Number 4: 584-ADG1433YRUZ; Configuration: SPDT; Packing: Tube; Mounting Technology: Surface Mount; Code_JEDEC: MO-153AB; ComponentLink1Description: Manufacturer URL; ComponentLink1URL: http://www.analog.com/en/index.html; ComponentLink2Description: Datasheet; ComponentLink2URL: http://www.analog.com/static/imported-files/data_sheets/ADG1433_1434.pdf; ComponentLink3Description: Package Specification; ComponentLink3URL: http:/www.analog.com/static/imported-files/packages/36244347913743854010197452789RU16.pdf
footprint ADI-RU-16_N (SOP, 16-Leads, Body 5x4.4mm, Pitch 0.65mm, IPC Medium Density)
footprint ADI-RU-16_L (SOP, 16-Leads, Body 5x4.4mm, Pitch 0.65mm, IPC High Density)
footprint ADI-RU-16_M (SOP, 16-Leads, Body 5x4.4mm, Pitch 0.65mm, IPC Low Density)
pins: 1 VDD (power) "Most Positive Power Supply Potential.", 2 S1A "Source Terminal 1A. Can be an input or an output.", 3 D1 "Drain Terminal 1. Can be an input or an output.", 4 S1B "Source Terminal 1B Can be an input or an output.", 5 S2B "Source Terminal 2B. Can be an input or an output.", 6 D2 "Drain Terminal 2. Can be an input or an output.", 7 S2A "Source Terminal 2A. Can be an input or an output.", 8 IN2 (in) "Logic Control Input 2.", 9 IN3 (in) "Logic Control Input 3.", 10 S3A "Source Terminal 3A. Can be an input or an output.", 11 D3 "Drain Terminal 3. Can be an input or an output.", 12 S3B "Source Terminal 3B. Can be an input or an output.", 13 VSS (power) "Most Negative Power Supply Potential. In single-supply applications, it can be connected to ground.", 14 ~{EN} (in) "Active Low Digital Input. When high, the device is disabled and all switches are off. When low, INx logic inputs determine the on switches.", 15 IN1 (in) "Logic Control Input 1.", 16 GND (power) "Ground (0 V) Reference."

## ADG1433YRUZ-REEL
designator U?
4 Ohm Ron, Triple SPDT +/-15 V / +12 V / +/-5 V iCMOS Switch, 16-pin SOP (RU-16), Reel; Manufacturer: Analog Devices; PartNumber: ADG1433YRUZ-REEL; Id, Is (ON): 50pA, 60pA, 40pA; Is OFF: 40pA, 40pA, 20pA; Power Dissipation: 6.6mW; Ron (ohms): 4; DatasheetVersion: Rev. C; PackageVersion: Nov-02; PackageReference: RU-16; PackageDescription: 16-Pin Thin Shrink Small Outline Package, Body 5 x 4.4 mm, Pitch 0.65 mm; Supplier 1: Digi-Key; Supplier Part Number 1: ADG1433YRUZ-REEL-ND; Supplier 2: Newark; Supplier Part Number 2: 28M3593; Supplier 3: Mouser; Supplier Part Number 3: 584-ADG1433YRUZ-R; Configuration: SPDT; Packing: Reel; Mounting Technology: Surface Mount; Code_JEDEC: MO-153AB; ComponentLink1Description: Manufacturer URL; ComponentLink1URL: http://www.analog.com/en/index.html; ComponentLink2Description: Datasheet; ComponentLink2URL: http://www.analog.com/static/imported-files/data_sheets/ADG1433_1434.pdf; ComponentLink3Description: Package Specification; ComponentLink3URL: http:/www.analog.com/static/imported-files/packages/36244347913743854010197452789RU16.pdf
footprint ADI-RU-16_N (SOP, 16-Leads, Body 5x4.4mm, Pitch 0.65mm, IPC Medium Density)
footprint ADI-RU-16_L (SOP, 16-Leads, Body 5x4.4mm, Pitch 0.65mm, IPC High Density)
footprint ADI-RU-16_M (SOP, 16-Leads, Body 5x4.4mm, Pitch 0.65mm, IPC Low Density)
pins: 1 VDD (power) "Most Positive Power Supply Potential.", 2 S1A "Source Terminal 1A. Can be an input or an output.", 3 D1 "Drain Terminal 1. Can be an input or an output.", 4 S1B "Source Terminal 1B Can be an input or an output.", 5 S2B "Source Terminal 2B. Can be an input or an output.", 6 D2 "Drain Terminal 2. Can be an input or an output.", 7 S2A "Source Terminal 2A. Can be an input or an output.", 8 IN2 (in) "Logic Control Input 2.", 9 IN3 (in) "Logic Control Input 3.", 10 S3A "Source Terminal 3A. Can be an input or an output.", 11 D3 "Drain Terminal 3. Can be an input or an output.", 12 S3B "Source Terminal 3B. Can be an input or an output.", 13 VSS (power) "Most Negative Power Supply Potential. In single-supply applications, it can be connected to ground.", 14 ~{EN} (in) "Active Low Digital Input. When high, the device is disabled and all switches are off. When low, INx logic inputs determine the on switches.", 15 IN1 (in) "Logic Control Input 1.", 16 GND (power) "Ground (0 V) Reference."

## ADG1433YRUZ-REEL7
designator U?
4 Ohm Ron, Triple SPDT +/-15 V / +12 V / +/-5 V iCMOS Switch, 16-pin SOP (RU-16), Reel; Manufacturer: Analog Devices; PartNumber: ADG1433YRUZ-REEL7; Id, Is (ON): 50pA, 60pA, 40pA; Is OFF: 40pA, 40pA, 20pA; Power Dissipation: 6.6mW; Ron (ohms): 4; DatasheetVersion: Rev. C; PackageVersion: Nov-02; PackageReference: RU-16; PackageDescription: 16-Pin Thin Shrink Small Outline Package, Body 5 x 4.4 mm, Pitch 0.65 mm; Supplier 1: Digi-Key; Supplier Part Number 1: ADG1433YRUZ-REEL7-ND; Supplier 2: Newark; Supplier Part Number 2: 28M3594; Supplier 3: Mouser; Supplier Part Number 3: 584-ADG1433YRUZ-R7; Configuration: SPDT; Packing: Reel; Mounting Technology: Surface Mount; Code_JEDEC: MO-153AB; ComponentLink1Description: Manufacturer URL; ComponentLink1URL: http://www.analog.com/en/index.html; ComponentLink2Description: Datasheet; ComponentLink2URL: http://www.analog.com/static/imported-files/data_sheets/ADG1433_1434.pdf; ComponentLink3Description: Package Specification; ComponentLink3URL: http:/www.analog.com/static/imported-files/packages/36244347913743854010197452789RU16.pdf
footprint ADI-RU-16_N (SOP, 16-Leads, Body 5x4.4mm, Pitch 0.65mm, IPC Medium Density)
footprint ADI-RU-16_L (SOP, 16-Leads, Body 5x4.4mm, Pitch 0.65mm, IPC High Density)
footprint ADI-RU-16_M (SOP, 16-Leads, Body 5x4.4mm, Pitch 0.65mm, IPC Low Density)
pins: 1 VDD (power) "Most Positive Power Supply Potential.", 2 S1A "Source Terminal 1A. Can be an input or an output.", 3 D1 "Drain Terminal 1. Can be an input or an output.", 4 S1B "Source Terminal 1B Can be an input or an output.", 5 S2B "Source Terminal 2B. Can be an input or an output.", 6 D2 "Drain Terminal 2. Can be an input or an output.", 7 S2A "Source Terminal 2A. Can be an input or an output.", 8 IN2 (in) "Logic Control Input 2.", 9 IN3 (in) "Logic Control Input 3.", 10 S3A "Source Terminal 3A. Can be an input or an output.", 11 D3 "Drain Terminal 3. Can be an input or an output.", 12 S3B "Source Terminal 3B. Can be an input or an output.", 13 VSS (power) "Most Negative Power Supply Potential. In single-supply applications, it can be connected to ground.", 14 ~{EN} (in) "Active Low Digital Input. When high, the device is disabled and all switches are off. When low, INx logic inputs determine the on switches.", 15 IN1 (in) "Logic Control Input 1.", 16 GND (power) "Ground (0 V) Reference."

## ADG1434YCPZ-REEL
designator U?
4 Ohm Ron, Quad SPDT +/-15 V / +12 V / +/-5 V iCMOS Switch, 20-pin QFN (CP-20-4), Reel; Manufacturer: Analog Devices; PartNumber: ADG1434YCPZ-REEL; Id, Is (ON): 50pA, 60pA, 40pA; Is OFF: 40pA, 40pA, 20pA; Power Dissipation: 6.6mW; Ron (ohms): 4; DatasheetVersion: Rev. C; PackageVersion: 012508-B; PackageReference: CP-20-4; PackageDescription: 20-Pin Lead Frame Chip Scale Package, Body 4 x 4 mm, Pitch 0.5 mm; Supplier 1: Digi-Key; Supplier Part Number 1: ADG1434YCPZ-REEL-ND; Supplier 2: Newark; Supplier Part Number 2: 77M9911; Supplier 3: Mouser; Supplier Part Number 3: 584-ADG1434YCPZ-R; Configuration: SPDT; Packing: Reel; Mounting Technology: Surface Mount; Code_JEDEC: MO-220-VGGD-1; ComponentLink1Description: Manufacturer URL; ComponentLink1URL: http://www.analog.com/en/index.html; ComponentLink2Description: Datasheet; ComponentLink2URL: http://www.analog.com/static/imported-files/data_sheets/ADG1433_1434.pdf; ComponentLink3Description: Package Specification; ComponentLink3URL: http://www.analog.com/static/imported-files/packages/PKG_PDF/LFCSP(CP)/CP_20_4.pdf
footprint ADI-CP-20-4_N (QFN, 20-Leads, Body 4x4mm, Pitch 0.5mm, Thermal Pad 2.5x2.5mm, IPC Medium Density)
footprint ADI-CP-20-4_L (QFN, 20-Leads, Body 4x4mm, Pitch 0.5mm, Thermal Pad 2.5x2.5mm, IPC High Density)
footprint ADI-CP-20-4_M (QFN, 20-Leads, Body 4x4mm, Pitch 0.5mm, Thermal Pad 2.5x2.5mm, IPC Low Density)
pins: 1 D1 "Drain Terminal 1. Can be an input or an output.", 2 S1B "Source Terminal 1A. Can be an input or an output.", 3 VSS (power) "Most Negative Power Supply Potential. In single-supply applications, it can be connected to ground.", 4 GND (power) "Ground (0 V) Reference.", 5 S2B "Source Terminal 2B. Can be an input or an output.", 6 D2 "Drain Terminal 2. Can be an input or an output.", 7 S2A "Source Terminal 2A. Can be an input or an output.", 8 IN2 (in) "Logic Control Input 2.", 9 IN3 (in) "Logic Control Input 3.", 10 S3A "Source Terminal 3A. Can be an input or an output.", 11 D3 "Drain Terminal 3. Can be an input or an output.", 12 S3B "Source Terminal 3B. Can be an input or an output.", 13 VDD (power) "Most Positive Power Supply Potential.", 14 S4B "Source Terminal 4B. Can be an input or an output.", 15 D4 "Drain Terminal 4. Can be an input or an output.", 16 S4A "Source Terminal 4A. Can be an input or an output.", 17 IN4 (in) "Logic Control Input 4.", 18 ~{EN} (in) "Active Low Digital Input. When high, the device is disabled and all switches are off. When low, INx logic inputs determine the on switches.", 19 IN1 (in) "Logic Control Input 1.", 20 S1A "Source Terminal 1A. Can be an input or an output.", 21 EP (power) "The exposed pad is tied to the substrate, VSS."